# EAGLE library part 691321100006 (library Terminal_Blocks_Connectors_rev15e)
WR-TBL Serie 3211 - 3.50mm Vertical PCB Header , 6 Pins Con_TBL_Pluggable_3.50_PCB_V_6913211000xx_691321100006 <http://katalog.we-online.de/media/images/eican/Con_TBL_Pluggable_3.50_PCB_V_6913211000xx_pf2.jpg> Details see: http://katalog.we-online.de/en/em/691_321_100_0xx/691_321_100_006?m Created 2014-12-22, aslant tao 2014 (C) Würth Elektronik
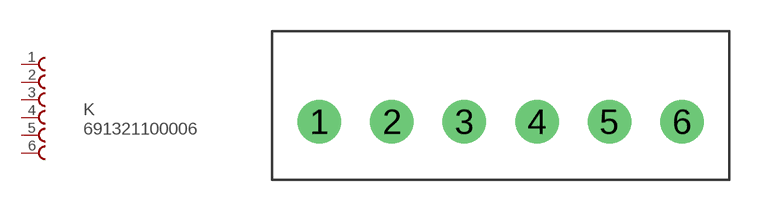
[diagram p11: symbol with the pads of 691321100006; footprint 691321100006]

Designator prefix K

## 691321100006  [691321100006]
1  1  pas
2  2  pas
3  3  pas
4  4  pas
5  5  pas
6  6  pas

## Footprint 691321100006 (pad centres in mm)
WR-TBL Serie 3211 - 3.50mm Vertical PCB Header , 6 Pins
drill 1.4: 1 -3.5,0; 2 0,0; 3 3.5,0; 4 7,0; 5 10.5,0; 6 14,0